# EAGLE library part L77TSEH09SOL2 (library L77TSEH09SOL2)
Dsub, Stamped Signal 3A, Straight PCB Thru Hole Low Profile, Height=6.02mm (.237in), 9 Socket, Bright Tin Shell, Flash Gold, 4-40 Threaded Rear Insert Source: Datasheet <https://cdn.amphenol-cs.com/media/wysiwyg/files/drawing/l77tsxhxxsol2.pdf>
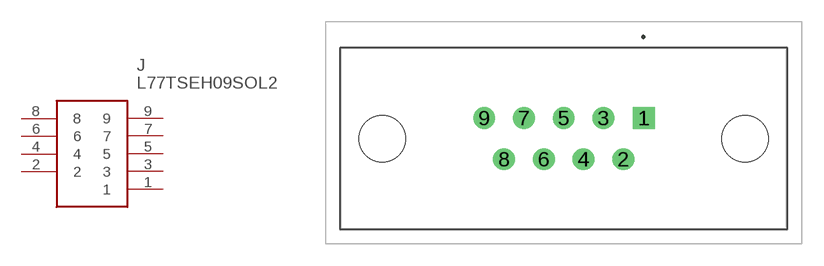
[diagram p0: symbol with the pads of L77TSEH09SOL2; footprint L77TSEH09SOL2]

Designator prefix J

## L77TSEH09SOL2 (Description: Dsub, Stamped Signal 3A, Straight PCB Thru Hole Low Profile, Height=6.02mm (.237in), 9 Socket, Bright Tin Shell, Flash Gold, 4-40 Threaded Rear Insert; Height: 12.12mm; Manufacturer_Name: Amphenol Communications Solutions; Manufacturer_Part_Number: L77TSEH09SOL2; Mouser_Part_Number: 523-L77TSEH09SOL2; Mouser_Price-Stock: https://www.mouser.co.uk/ProductDetail/Amphenol-Commercial-Products/L77TSEH09SOL2?qs=mq7kV%2Fq8lk7ZB3R56yxKcg%3D%3D)  [L77TSEH09SOL2]
1  1
2  2
3  3
4  4
5  5
6  6
7  7
8  8
9  9

## Footprint L77TSEH09SOL2 (pad centres in mm)
L77TSEH09SOL2-2
drill 1 pad 1.5 square: 1 0,0
drill 1 pad 1.5: 2 -1.43,-2.84; 3 -2.8,0; 4 -4.17,-2.84; 5 -5.54,0; 6 -6.91,-2.84; 7 -8.28,0; 8 -9.65,-2.84; 9 -11.02,0
hole 3.2 at -18.035,-1.42
hole 3.2 at 6.955,-1.42